# Altium footprint library QFN40P500X500X80_HS-40L.PcbLib: 1 footprints
Each footprint in its own frame and in the unit in brackets; x right, y up, seen from the top. Pads: shape width x height; smd on the part's side, far side on the other; paste and mask are expansions set on the pad; w line width, h text height; cw(c..) or ccw(c..) is an arc to the next point about the centre after c.
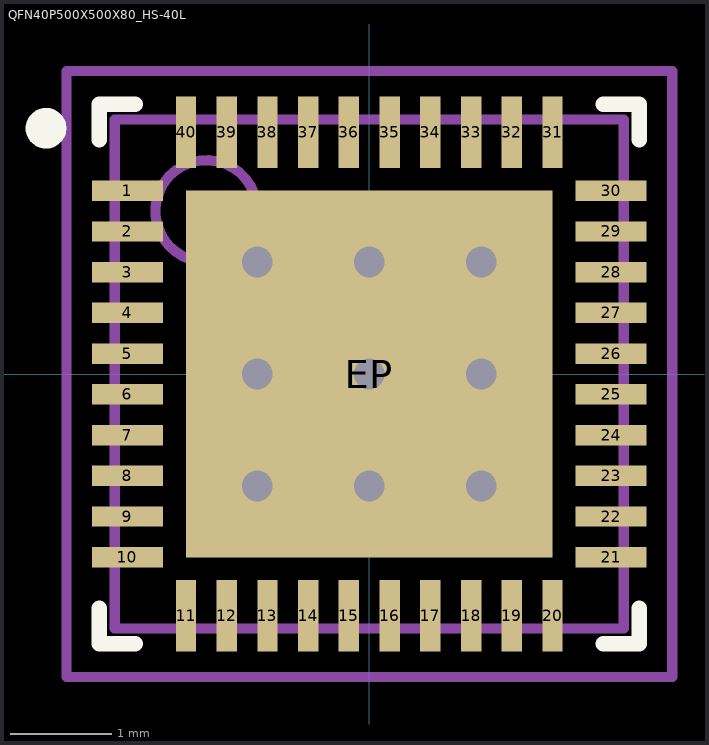
[diagram p0: the footprint, top view; thin cyan lines are the x and y axes]

## QFN40P500X500X80_HS-40L [mm] "QFN, 40-Leads, Body 5.00x5.00mm, Pitch 0.40mm, Thermal Pad 3.70x3.70mm, IPC High Density"
height 0.8
pads (41):
  rect 0.7x0.2 smd: 1(-2.375,1.8) 2(-2.375,1.4) 3(-2.375,1) 4(-2.375,0.6) 5(-2.375,0.2) 6(-2.375,-0.2) 7(-2.375,-0.6) 8(-2.375,-1) 9(-2.375,-1.4) 10(-2.375,-1.8) 21(2.375,-1.8) 22(2.375,-1.4) 23(2.375,-1) 24(2.375,-0.6) 25(2.375,-0.2) 26(2.375,0.2) 27(2.375,0.6) 28(2.375,1) 29(2.375,1.4) 30(2.375,1.8)
  rect 0.2x0.7 smd: 11(-1.8,-2.375) 12(-1.4,-2.375) 13(-1,-2.375) 14(-0.6,-2.375) 15(-0.2,-2.375) 16(0.2,-2.375) 17(0.6,-2.375) 18(1,-2.375) 19(1.4,-2.375) 20(1.8,-2.375) 31(1.8,2.375) 32(1.4,2.375) 33(1,2.375) 34(0.6,2.375) 35(0.2,2.375) 36(-0.2,2.375) 37(-0.6,2.375) 38(-1,2.375) 39(-1.4,2.375) 40(-1.8,2.375)
  rect 3.6x3.6 smd: EP(0,0)
via -1.1,1.1 diameter 0.5 hole 0.3
via 0,1.1 diameter 0.5 hole 0.3
via 1.1,1.1 diameter 0.5 hole 0.3
via -1.1,0 diameter 0.5 hole 0.3
via 0,0 diameter 0.5 hole 0.3
via 1.1,0 diameter 0.5 hole 0.3
via -1.1,-1.1 diameter 0.5 hole 0.3
via 0,-1.1 diameter 0.5 hole 0.3
via 1.1,-1.1 diameter 0.5 hole 0.3
Top Overlay:
  circle w0.2: c-3.175,2.413 r0.1
  lines w0.152: -2.65,-2.3 -2.65,-2.65 -2.3,-2.65 ; -2.65,2.3 -2.65,2.65 -2.3,2.65 ; 2.3,-2.65 2.65,-2.65 2.65,-2.3 ; 2.3,2.65 2.65,2.65 2.65,2.3
Mechanical 13:
  circle w0.1: c-1.6,1.6 r0.5
  lines w0.1: -2.5,-2.5 -2.5,2.5 2.5,2.5 2.5,-2.5 -2.5,-2.5
Mechanical 15:
  lines w0.1: -0.5,0 0.5,0 ; 0,-0.5 0,0.5 ; -2.975,-2.975 -2.975,2.975 2.975,2.975 2.975,-2.975 -2.975,-2.975
3D body "QFN40P500X500X80_HS-41L.step": height 0.8, standoff 0, extent -2.55,-2.55 2.55,2.55